# EAGLE library part PAM8302A (library XP9300)
Mono audio amplifier
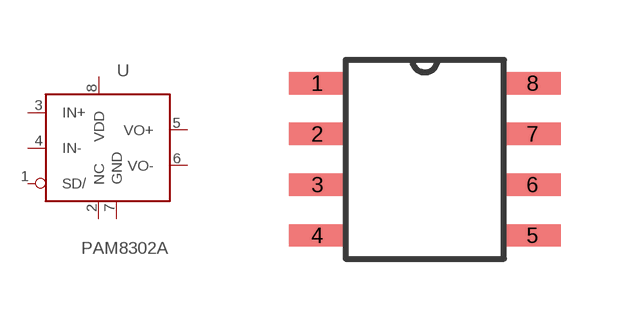
[diagram p2: symbol with the pads of SOIC_2AADCR_DIO; footprint SOIC_2AADCR_DIO]

Designator prefix U

## PAM8302A (DIGIKEY: PAM8302AADCRDICT-ND)  [SOIC_2AADCR_DIO]
1  SD/
2  NC  nc
3  IN+
4  IN-
5  VO+
6  VO-
7  GND
8  VDD  pwr

## Footprint SOIC_2AADCR_DIO (pad centres in mm)
smd 1.422 x 0.559: 1 -2.692,1.905; 2 -2.692,0.635; 3 -2.692,-0.635; 4 -2.692,-1.905; 5 2.692,-1.905; 6 2.692,-0.635; 7 2.692,0.635; 8 2.692,1.905